# Altium footprint library Infineon.PcbLib: 1 footprints
Each footprint in its own frame and in the unit in brackets; x right, y up, seen from the top. Pads: shape width x height; smd on the part's side, far side on the other; paste and mask are expansions set on the pad; w line width, h text height; cw(c..) or ccw(c..) is an arc to the next point about the centre after c.
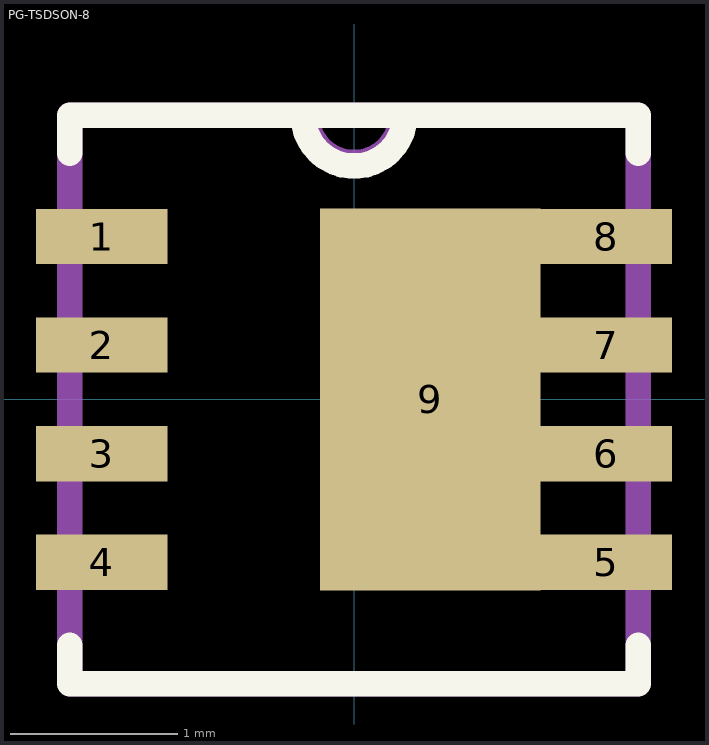
[diagram p0: the footprint, top view; thin cyan lines are the x and y axes]

## PG-TSDSON-8 [mil]
height 43
pads (9):
  rect 31x13 smd paste-6.5: 1(-59.5,38.39) 2(-59.5,12.8) 3(-59.5,-12.8) 4(-59.5,-38.39) 5(59.5,-38.39) 6(59.5,-12.8) 7(59.5,12.8) 8(59.5,38.39)
  rect 52x90 smd paste-26 mask+1: 9(18,0)
Top Layer:
  region: -75,0
Top Overlay:
  lines w6: -67,-57.99 -67,-67 67,-67 67,-57.99 ; -67,57.99 -67,67 67,67 67,57.99 ; -12,67 ccw(c0,67) 12,67
Top Paste:
  region: -44,44.89 -75,44.89 -75,31.89 -44,31.89
  region: -44,19.3 -75,19.3 -75,6.3 -44,6.3
  region: -44,-6.3 -75,-6.3 -75,-19.3 -44,-19.3
  region: -44,-31.89 -75,-31.89 -75,-44.89 -44,-44.89
  region: 75,-31.89 44,-31.89 44,-44.89 75,-44.89
  region: 75,-6.3 44,-6.3 44,-19.3 75,-19.3
  region: 75,19.3 44,19.3 44,6.3 75,6.3
  region: 75,44.89 44,44.89 44,31.89 75,31.89
  region: -75,0
Top Solder:
  region: -75,0
Mechanical 1:
  lines w6: -11.17,67 ccw(c0,67) 11.17,67 ; -67,-67 -67,67 67,67 67,-67 -67,-67
Mechanical 13:
  lines w0: -12,67 ccw(c0,67) 12,67 ; -67,-67 67,-67 67,67 -67,67 -67,-67